# Altium footprint library diode.PCBLIB: 206 footprints (part 3 of 13)
Each footprint in its own frame and in the unit in brackets; x right, y up, seen from the top. Pads: shape width x height; smd on the part's side, far side on the other; paste and mask are expansions set on the pad; w line width, h text height; cw(c..) or ccw(c..) is an arc to the next point about the centre after c.
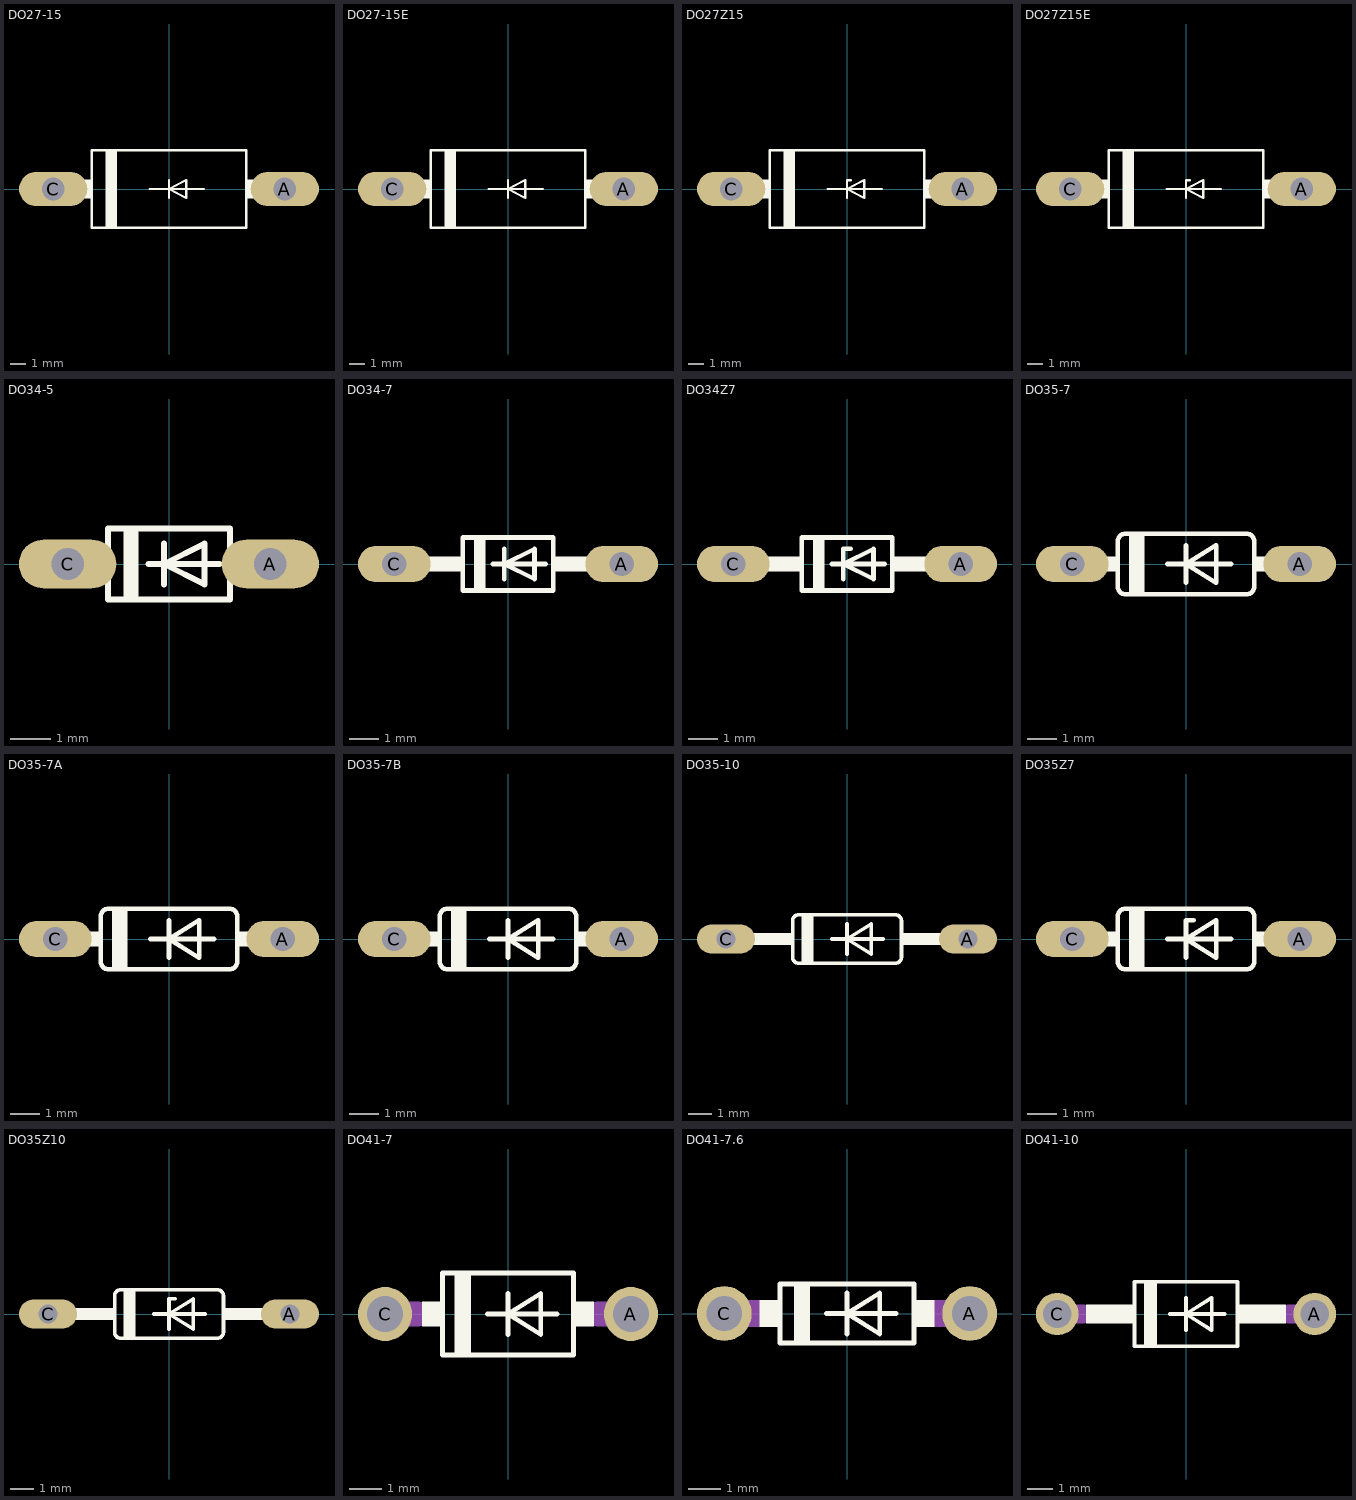
[diagram p2: the footprints below, top view; thin cyan lines are the x and y axes]

## DO27-15 [mil]
pads (2):
  oval 177x88.5 hole 59: A(300,0) C(-300,0)
Top Overlay:
  rectangle: -165,-100 -135,100
  rectangle: -235,-25 -200,25
  rectangle: 200,-25 235,25
  lines w6: -50,0 0,0 ; 0,-23 0,0 ; 0,23 0,0 ; 90,0 0,0 ; 0,0 45,23 45,-23 0,0 ; -200,-100 -200,100 200,100 200,-100 -200,-100
Mechanical 16:
  lines w50: -300,0 -245,0 ; 245,0 300,0

## DO27-15E [mil]
pads (2):
  oval 177x88.5 hole 59: A(300,0) C(-300,0)
Top Overlay:
  rectangle: -165,-100 -135,100
  rectangle: -220,-25 -200,25
  rectangle: 200,-25 220,25
  lines w6: -50,0 0,0 ; 0,-23 0,0 ; 0,23 0,0 ; 90,0 0,0 ; 0,0 45,23 45,-23 0,0 ; -200,-100 -200,100 200,100 200,-100 -200,-100
Mechanical 16:
  lines w50: -300,0 -230,0 ; 230,0 300,0

## DO27Z15 [mil]
pads (2):
  oval 177x88.5 hole 59: A(300,0) C(-300,0)
Top Overlay:
  rectangle: -165,-100 -135,100
  rectangle: -235,-25 -200,25
  rectangle: 200,-25 235,25
  lines w6: -50,0 0,0 ; 0,-23 0,0 ; 10,23 0,23 0,0 ; 90,0 0,0 ; 0,0 45,23 45,-23 0,0 ; -200,-100 -200,100 200,100 200,-100 -200,-100
Mechanical 16:
  lines w50: -300,0 -245,0 ; 245,0 300,0

## DO27Z15E [mil]
pads (2):
  oval 177x88.5 hole 59: A(300,0) C(-300,0)
Top Overlay:
  rectangle: -165,-100 -135,100
  rectangle: 200,-25 220,25
  rectangle: -220,-25 -200,25
  lines w6: -50,0 0,0 ; 0,-23 0,0 ; 10,23 0,23 0,0 ; 90,0 0,0 ; 0,0 45,23 45,-23 0,0 ; -200,-100 -200,100 200,100 200,-100 -200,-100
Mechanical 16:
  lines w50: -300,0 -230,0 ; 230,0 300,0

## DO34-5 [mil]
pads (2):
  oval 96x48 hole 32: A(100,0) C(-100,0)
Top Overlay:
  rectangle: -45,-35 -30,35
  rectangle: -65,-10 -60,10
  rectangle: 60,-10 65,10
  lines w6: -20,0 -5,0 ; -5,-20 -5,0 ; -5,20 -5,0 ; 50,0 -5,0 ; -5,0 35,-20 35,20 -5,0 ; -60,-35 60,-35 60,35 -60,35 -60,-35
Mechanical 16:
  lines w20: -100,0 -70,0 ; 70,0 100,0

## DO34-7 [mil]
pads (2):
  oval 96x48 hole 32: A(150,0) C(-150,0)
Top Overlay:
  rectangle: -45,-35 -30,35
  rectangle: 60,-10 115,10
  rectangle: -115,-10 -60,10
  lines w6: -20,0 -5,0 ; -5,-20 -5,0 ; -5,20 -5,0 ; 50,0 -5,0 ; -5,0 35,-20 35,20 -5,0 ; -60,-35 60,-35 60,35 -60,35 -60,-35
Mechanical 16:
  lines w20: -150,0 -115,0 ; 115,0 150,0

## DO34Z7 [mil]
pads (2):
  oval 96x48 hole 32: A(150,0) C(-150,0)
Top Overlay:
  rectangle: -115,-10 -60,10
  rectangle: 60,-10 115,10
  rectangle: -45,-35 -30,35
  lines w6: -20,0 -5,0 ; -5,-20 -5,0 ; 5,20 -5,20 -5,0 ; 50,0 -5,0 ; -5,0 35,20 35,-20 -5,0 ; -60,-35 -60,35 60,35 60,-35 -60,-35
Mechanical 16:
  lines w20: -150,0 -115,0 ; 115,0 150,0
3D body: height 120.61, standoff -50, extent -165.5,-55 165.5,50

## DO35-7 [mil]
pads (2):
  oval 96x48 hole 32: A(150,0) C(-150,0)
Top Overlay:
  rectangle: -75,-40 -55,40
  rectangle: 90,-10 115,10
  rectangle: -115,-10 -90,10
  lines w6: -25,0 0,0 ; 0,-25 0,0 ; 0,25 0,0 ; 60,0 0,0 ; 0,0 40,-25 40,25 0,0 ; -90,-30 ccw(c-80,-30) -80,-40 80,-40 ccw(c80,-30) 90,-30 90,30 ccw(c80,30) 80,40 -80,40 ccw(c-80,30) -90,30 -90,-30
Mechanical 16:
  lines w20: -150,0 -115,0 ; 115,0 150,0

## DO35-7A [mil]
pads (2):
  oval 96x48 hole 32: A(150,0) C(-150,0)
Top Overlay:
  rectangle: -75,-40 -55,40
  rectangle: -105,-10 -90,10
  rectangle: 90,-10 105,10
  lines w6: -25,0 0,0 ; 0,-25 0,0 ; 0,25 0,0 ; 60,0 0,0 ; 0,0 40,-25 40,25 0,0 ; -90,-30 ccw(c-80,-30) -80,-40 80,-40 ccw(c80,-30) 90,-30 90,30 ccw(c80,30) 80,40 -80,40 ccw(c-80,30) -90,30 -90,-30
Mechanical 16:
  lines w20: -150,0 -105,0 ; 105,0 150,0

## DO35-7B [mil]
pads (2):
  oval 96x48 hole 32: A(150,0) C(-150,0)
Top Overlay:
  rectangle: -75,-40 -55,40
  rectangle: -105,-10 -90,10
  rectangle: 90,-10 105,10
  lines w6: -25,0 0,0 ; 0,-25 0,0 ; 0,25 0,0 ; 60,0 0,0 ; 0,0 40,-25 40,25 0,0 ; -90,-30 ccw(c-80,-30) -80,-40 80,-40 ccw(c80,-30) 90,-30 90,30 ccw(c80,30) 80,40 -80,40 ccw(c-80,30) -90,30 -90,-30
Mechanical 16:
  lines w20: -150,0 -105,0 ; 105,0 150,0

## DO35-10 [mil]
pads (2):
  oval 96x48 hole 32: A(200,0) C(-200,0)
Top Overlay:
  rectangle: -75,-40 -55,40
  rectangle: 90,-10 165,10
  rectangle: -165,-10 -90,10
  lines w6: -25,0 0,0 ; 0,-25 0,0 ; 0,25 0,0 ; 60,0 0,0 ; 0,0 40,-25 40,25 0,0 ; -90,-30 ccw(c-80,-30) -80,-40 80,-40 ccw(c80,-30) 90,-30 90,30 ccw(c80,30) 80,40 -80,40 ccw(c-80,30) -90,30 -90,-30
Mechanical 16:
  lines w20: -200,0 -165,0 ; 165,0 200,0

## DO35Z7 [mil]
pads (2):
  oval 96x48 hole 32: A(150,0) C(-150,0)
Top Overlay:
  rectangle: -75,-40 -55,40
  rectangle: 90,-10 115,10
  rectangle: -115,-10 -90,10
  lines w6: -25,0 0,0 ; 0,-25 0,0 ; 10,25 0,25 0,0 ; 60,0 0,0 ; 0,0 40,-25 40,25 0,0 ; -90,-30 ccw(c-80,-30) -80,-40 80,-40 ccw(c80,-30) 90,-30 90,30 ccw(c80,30) 80,40 -80,40 ccw(c-80,30) -90,30 -90,-30
Mechanical 16:
  lines w20: -150,0 -115,0 ; 115,0 150,0

## DO35Z10 [mil]
pads (2):
  oval 96x48 hole 32: A(200,0) C(-200,0)
Top Overlay:
  rectangle: -75,-40 -55,40
  rectangle: 90,-10 165,10
  rectangle: -165,-10 -90,10
  lines w6: -25,0 0,0 ; 0,-25 0,0 ; 10,25 0,25 0,0 ; 60,0 0,0 ; 0,0 40,-25 40,25 0,0 ; -90,-30 ccw(c-80,-30) -80,-40 80,-40 ccw(c80,-30) 90,-30 90,30 ccw(c80,30) 80,40 -80,40 ccw(c-80,30) -90,30 -90,-30
Mechanical 16:
  lines w20: -200,0 -165,0 ; 165,0 200,0

## DO41-7 [mil]
pads (2):
  round 66 hole 44: A(150,0) C(-150,0)
Top Overlay:
  rectangle: -65,-50 -45,50
  rectangle: 80,-15 105,15
  rectangle: -105,-15 -80,15
  lines w6: -25,0 0,0 ; 0,-25 0,0 ; 0,25 0,0 ; 60,0 0,0 ; 0,0 40,-25 40,25 0,0 ; -80,-50 80,-50 80,50 -80,50 -80,-50
Mechanical 16:
  lines w30: -150,0 -110,0 ; 110,0 150,0

## DO41-7.6 [mil]
pads (2):
  round 66.93 hole 43.31: A(150,0) C(-150,0)
Top Overlay:
  rectangle: -65,-37.4 -45,36.22
  rectangle: 81.97,-16.73 106.97,16.73
  rectangle: -106.97,-16.73 -81.97,16.73
  lines w6: -25,0 0,0 ; 0,-25 0,0 ; 0,25 0,0 ; 60,0 0,0 ; 0,0 40,-25 40,25 0,0 ; -81.97,-36.22 81.97,-36.22 81.97,36.22 -81.97,36.22 -81.97,-36.22
Mechanical 16:
  lines w33.46: -150,0 -99.17,0 ; 98.19,0 150,0

## DO41-10 [mil]
pads (2):
  round 66 hole 44: A(200,0) C(-200,0)
Top Overlay:
  rectangle: -65,-50 -45,50
  rectangle: 80,-15 155,15
  rectangle: -155,-15 -80,15
  lines w6: -25,0 0,0 ; 0,-25 0,0 ; 0,25 0,0 ; 60,0 0,0 ; 0,0 40,-25 40,25 0,0 ; -80,-50 80,-50 80,50 -80,50 -80,-50
Mechanical 16:
  lines w30: -200,0 -160,0 ; 160,0 200,0